# Altium schematic symbol library yusend_power.SCHLIB: 125 symbols
Pins are listed as number, name and electrical type; pins without a type are passive.

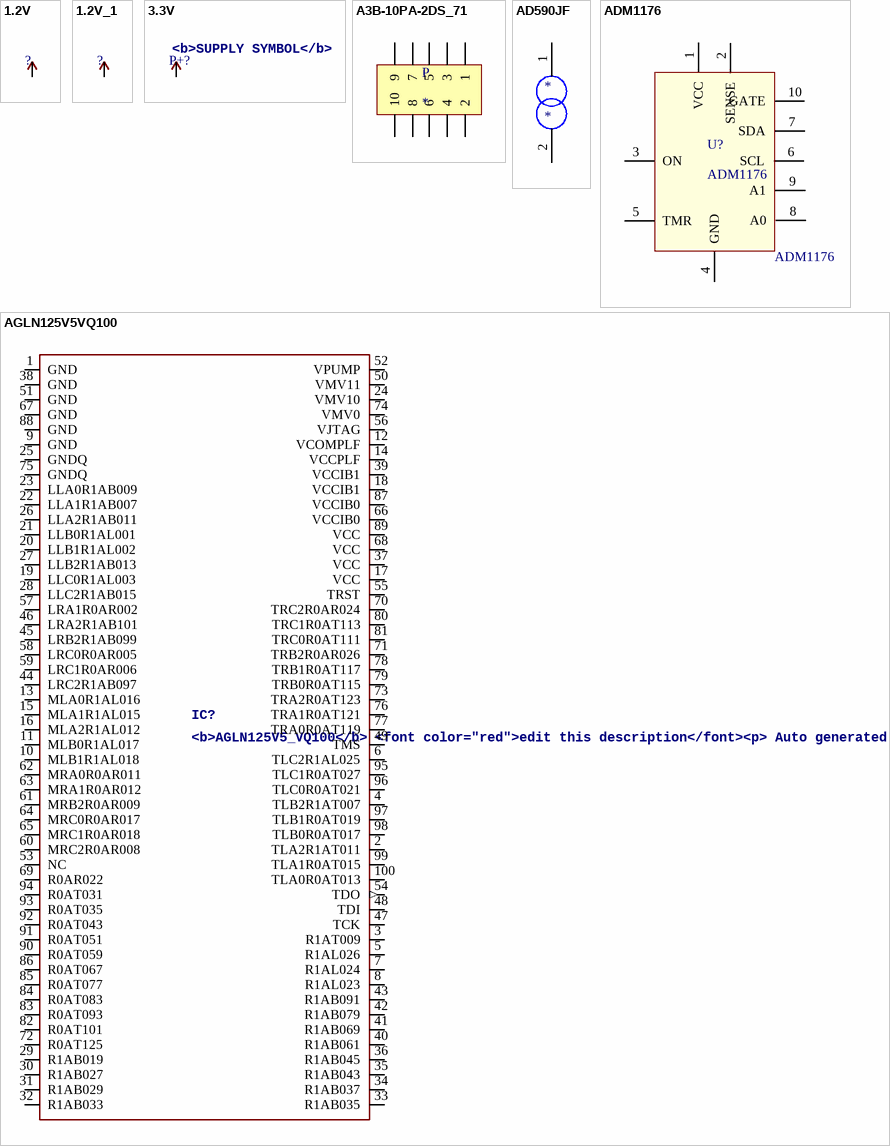
[diagram p0: symbols 1.2V to AGLN125V5VQ100]

## 1.2V
designator ?
pins: 1.2V (oe)

## 1.2V_1
designator ?
pins: 1.2V (oe)

## 3.3V
designator P+?, comment <b>SUPPLY SYMBOL</b>
pins: 3.3V (oe)

## A3B-10PA-2DS_71
designator P
footprint A3B-10PA-2DS_71
pins: 1 "A0", 2 "A0", 3 "A0", 4 "A0", 5 "A0", 6 "A0", 7 "A0", 8 "A0", 9 "A0", 10 "A0"

## AD590JF
designator *
Supplier 1: Digi-Key; Supplier Part Number 1: AD590JF-ND
footprint AD590JF (CFP, 2-Leads, Body 2.36x6.10mm (max), Pitch 1.27mm, IPC Medium Density)
pins: 1 "A0", 2 "A0"

## ADM1176
designator U?
DataSheet: http://www.analog.com/static/imported-files/data_sheets/ADM1176.pdf; Supplier 1: Digi-Key; Supplier Part Number 1: ADM1176-1ARMZ-R7CT-ND; MPN: ADM1176
footprint MSOP-10
pins: 1 VCC, 2 SENSE, 3 ON, 4 GND, 5 TMR, 6 SCL, 7 SDA, 8 A0, 9 A1, 10 GATE

## AGLN125V5VQ100
designator IC?, comment <b>AGLN125V5_VQ100</b> <font color="red">edit this description</font><p> / Auto generated by <i>make-symbol-device-package-bsdl.ulp Rev. 43</i><br> / Source: AGLN125V5_VQ100.bsd
footprint VQ100
pins: 1 GND (power), 2 TLA2R1AT011, 3 R1AT009, 4 TLB2R1AT007, 5 R1AL026, 6 TLC2R1AL025, 7 R1AL024, 8 R1AL023, 9 GND (power), 10 MLB1R1AL018, 11 MLB0R1AL017, 12 VCOMPLF, 13 MLA0R1AL016, 14 VCCPLF (power), 15 MLA1R1AL015, 16 MLA2R1AL012, 17 VCC (power), 18 VCCIB1 (power), 19 LLC0R1AL003, 20 LLB1R1AL002, 21 LLB0R1AL001, 22 LLA1R1AB007, 23 LLA0R1AB009, 24 VMV10, 25 GNDQ (power), 26 LLA2R1AB011, 27 LLB2R1AB013, 28 LLC2R1AB015, 29 R1AB019, 30 R1AB027, 31 R1AB029, 32 R1AB033, 33 R1AB035, 34 R1AB037, 35 R1AB043, 36 R1AB045, 37 VCC (power), 38 GND (power), 39 VCCIB1 (power), 40 R1AB061, 41 R1AB069, 42 R1AB079, 43 R1AB091, 44 LRC2R1AB097, 45 LRB2R1AB099, 46 LRA2R1AB101, 47 TCK, 48 TDI, 49 TMS, 50 VMV11, 51 GND (power), 52 VPUMP, 53 NC, 54 TDO (out), 55 TRST, 56 VJTAG, 57 LRA1R0AR002, 58 LRC0R0AR005, 59 LRC1R0AR006, 60 MRC2R0AR008, 61 MRB2R0AR009, 62 MRA0R0AR011, 63 MRA1R0AR012, 64 MRC0R0AR017, 65 MRC1R0AR018, 66 VCCIB0 (power), 67 GND (power), 68 VCC (power), 69 R0AR022, 70 TRC2R0AR024, 71 TRB2R0AR026, 72 R0AT125, 73 TRA2R0AT123, 74 VMV0, 75 GNDQ (power), 76 TRA1R0AT121, 77 TRA0R0AT119, 78 TRB1R0AT117, 79 TRB0R0AT115, 80 TRC1R0AT113, 81 TRC0R0AT111, 82 R0AT101, 83 R0AT093, 84 R0AT083, 85 R0AT077, 86 R0AT067, 87 VCCIB0 (power), 88 GND (power), 89 VCC (power), 90 R0AT059, 91 R0AT051, 92 R0AT043, 93 R0AT035, 94 R0AT031, 95 TLC1R0AT027, 96 TLC0R0AT021, 97 TLB1R0AT019, 98 TLB0R0AT017, 99 TLA1R0AT015, 100 TLA0R0AT013

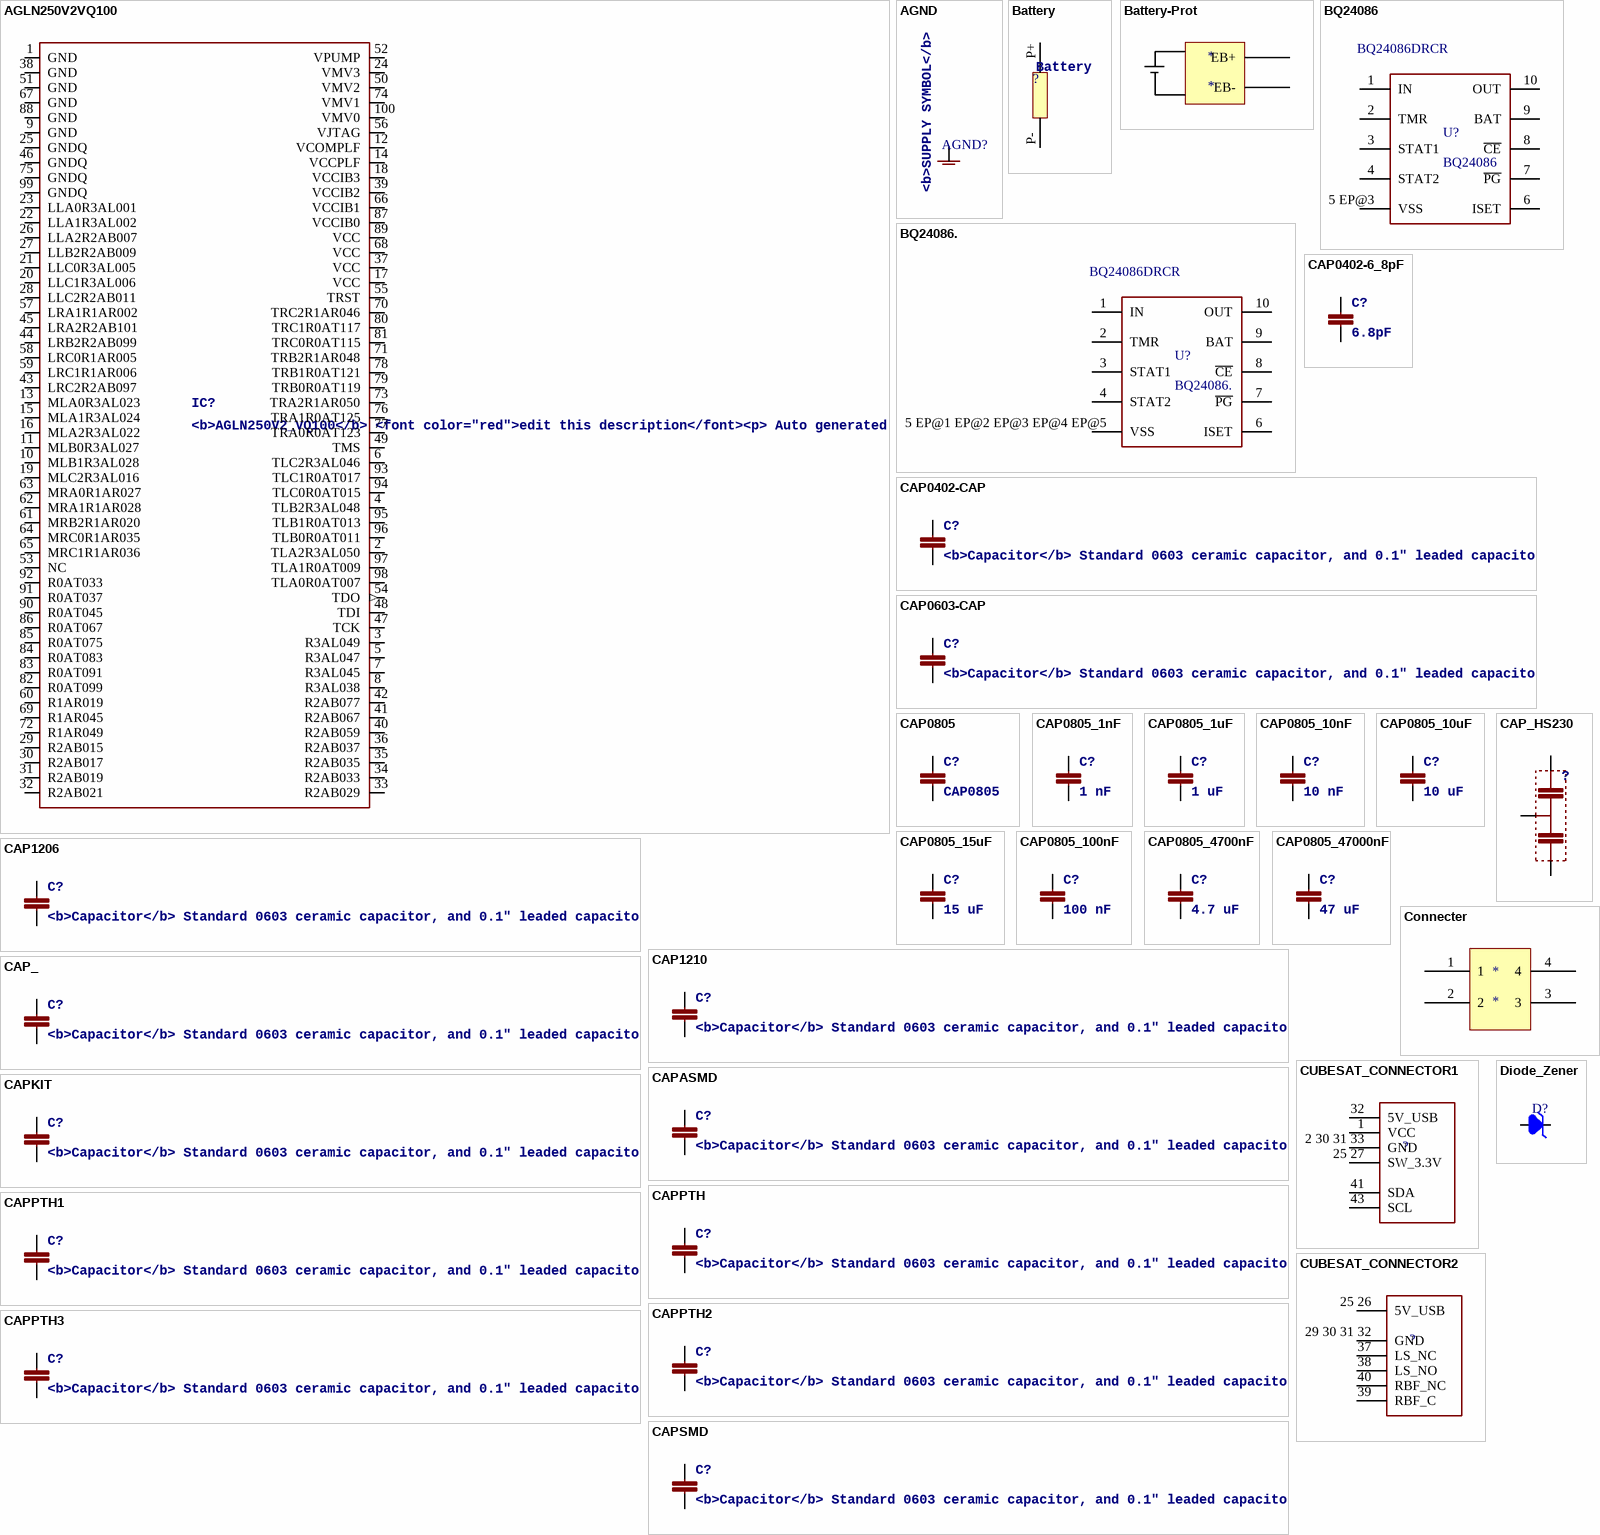
[diagram p1: symbols AGLN250V2VQ100 to Diode_Zener]

## AGLN250V2VQ100
designator IC?, comment <b>AGLN250V2_VQ100</b> <font color="red">edit this description</font><p> / Auto generated by <i>make-symbol-device-package-bsdl.ulp Rev. 43</i><br> / Source: AGLN250V2_VQ100.bsd
footprint VQ100
pins: 1 GND (power), 2 TLA2R3AL050, 3 R3AL049, 4 TLB2R3AL048, 5 R3AL047, 6 TLC2R3AL046, 7 R3AL045, 8 R3AL038, 9 GND (power), 10 MLB1R3AL028, 11 MLB0R3AL027, 12 VCOMPLF, 13 MLA0R3AL023, 14 VCCPLF (power), 15 MLA1R3AL024, 16 MLA2R3AL022, 17 VCC (power), 18 VCCIB3 (power), 19 MLC2R3AL016, 20 LLC1R3AL006, 21 LLC0R3AL005, 22 LLA1R3AL002, 23 LLA0R3AL001, 24 VMV3, 25 GNDQ (power), 26 LLA2R2AB007, 27 LLB2R2AB009, 28 LLC2R2AB011, 29 R2AB015, 30 R2AB017, 31 R2AB019, 32 R2AB021, 33 R2AB029, 34 R2AB033, 35 R2AB035, 36 R2AB037, 37 VCC (power), 38 GND (power), 39 VCCIB2 (power), 40 R2AB059, 41 R2AB067, 42 R2AB077, 43 LRC2R2AB097, 44 LRB2R2AB099, 45 LRA2R2AB101, 46 GNDQ (power), 47 TCK, 48 TDI, 49 TMS, 50 VMV2, 51 GND (power), 52 VPUMP, 53 NC, 54 TDO (out), 55 TRST, 56 VJTAG, 57 LRA1R1AR002, 58 LRC0R1AR005, 59 LRC1R1AR006, 60 R1AR019, 61 MRB2R1AR020, 62 MRA1R1AR028, 63 MRA0R1AR027, 64 MRC0R1AR035, 65 MRC1R1AR036, 66 VCCIB1 (power), 67 GND (power), 68 VCC (power), 69 R1AR045, 70 TRC2R1AR046, 71 TRB2R1AR048, 72 R1AR049, 73 TRA2R1AR050, 74 VMV1, 75 GNDQ (power), 76 TRA1R0AT125, 77 TRA0R0AT123, 78 TRB1R0AT121, 79 TRB0R0AT119, 80 TRC1R0AT117, 81 TRC0R0AT115, 82 R0AT099, 83 R0AT091, 84 R0AT083, 85 R0AT075, 86 R0AT067, 87 VCCIB0 (power), 88 GND (power), 89 VCC (power), 90 R0AT045, 91 R0AT037, 92 R0AT033, 93 TLC1R0AT017, 94 TLC0R0AT015, 95 TLB1R0AT013, 96 TLB0R0AT011, 97 TLA1R0AT009, 98 TLA0R0AT007, 99 GNDQ (power), 100 VMV0

## AGND
designator AGND?, comment <b>SUPPLY SYMBOL</b>
pins: AGND (oe)

## Battery
designator ?
footprint Battery-Li-ion
pins: P+ (power) "Pos term", P- (power) "Neg Term"

## Battery-Prot
designator *
footprint Batt-Prot
pins: EB+ "A0", EB- "A0"

## BQ24086
designator U?  Manufacturer Part Number: BQ24086DRCR
Manufacturer: Texas Instruments; Function: Charge Management; Battery Chemistry: Li-Ion, Li-Pol; Voltage - Supply: 3.5 V ~ 6.5 V; Supplier 1: Digi-Key; RoHS: RoHS Compliant; Category: Integrated Circuits (ICs); Stock 1: 3361; Pricing 1: 1=3.12, 10=2.826, 25=2.5312, 100=2.276, 250=2.02096, 500=1.7659, 750=1.59912, 1000=1.22632 (CAD); Packaging: Cut Tape (CT); Operating Temperature: -40°C ~ 155°C; Mounting Type: Surface Mount; Package / Case: 10-VFDFN Exposed Pad; Supplier Device Package: 10-SON (3x3); ComponentLink1URL: http://www.ti.com/lit/ds/symlink/bq24085.pdf; ComponentLink1Description: http://www.ti.com/lit/ds/symlink/bq24085.pdf; Supplier Part Number 1: 296-22993-1-ND
footprint PVSON10_AP
pins: 1 IN, 2 TMR, 3 STAT1, 4 STAT2, 5 EP@3 VSS, 6 ISET, 7 ~{PG}, 8 ~{CE}, 9 BAT, 10 OUT

## BQ24086.
designator U?  Manufacturer Part Number: BQ24086DRCR
Manufacturer: Texas Instruments; Function: Charge Management; Battery Chemistry: Li-Ion, Li-Pol; Voltage - Supply: 3.5 V ~ 6.5 V; Supplier 1: Digi-Key; RoHS: RoHS Compliant; Category: Integrated Circuits (ICs); Stock 1: 3361; Pricing 1: 1=3.12, 10=2.826, 25=2.5312, 100=2.276, 250=2.02096, 500=1.7659, 750=1.59912, 1000=1.22632 (CAD); Packaging: Cut Tape (CT); Operating Temperature: -40°C ~ 155°C; Mounting Type: Surface Mount; Package / Case: 10-VFDFN Exposed Pad; Supplier Device Package: 10-SON (3x3); ComponentLink1URL: http://www.ti.com/lit/ds/symlink/bq24085.pdf; ComponentLink1Description: http://www.ti.com/lit/ds/symlink/bq24085.pdf; Supplier Part Number 1: 296-22993-1-ND
footprint PVSON10
pins: 1 IN, 2 TMR, 3 STAT1, 4 STAT2, 5 EP@1 EP@2 EP@3 EP@4 EP@5 VSS, 6 ISET, 7 ~{PG}, 8 ~{CE}, 9 BAT, 10 OUT

## CAP0402-6_8pF
designator C?, comment 6.8pF
Value: 6.8pF; Supplier 1: Digi-Key; Supplier Part Number 1: 490-5950-1-ND
footprint 0402-CAP
pins: 1, 2

## CAP0402-CAP
designator C?, comment <b>Capacitor</b> / Standard 0603 ceramic capacitor, and 0.1" leaded capacitor.
footprint 0402-CAP
pins: 1, 2

## CAP0603-CAP
designator C?, comment <b>Capacitor</b> / Standard 0603 ceramic capacitor, and 0.1" leaded capacitor.
footprint 0603-CAP
pins: 1, 2

## CAP0805
designator C?
Manufacturer: Kemet; Manufacturer Part Number: C0805C105K8RACTU; Tolerance: ±10%; Voltage - Rated: 10V; Temperature Coefficient: X7R; RoHS: RoHS Compliant; Category: Capacitors; Packaging: Tape & Reel (TR); Mounting Type: Surface Mount, MLCC; Operating Temperature: -55°C ~ 125°C; Applications: General Purpose; Ratings: -; Package / Case: 0805 (2012 Metric); Size / Dimension: 0.079" L x 0.049" W (2.00mm x 1.25mm); Height - Seated (Max): -; Thickness (Max): 0.039" (1.00mm); Lead Spacing: -; Features: -; Lead Style: -; ComponentLink1URL: http://www.kemet.com/docfinder?Partnumber=C0805C105K8RACTU; ComponentLink1Description: http://www.kemet.com/docfinder?Partnumber=C0805C105K8RACTU
footprint 0805
pins: 1, 2

## CAP0805_1nF
designator C?, comment 1 nF
Tolerance: ±10%; Voltage - Rated: 10V; Temperature Coefficient: X7R; RoHS: RoHS Compliant; Category: Capacitors; Packaging: Tape & Reel (TR); Mounting Type: Surface Mount, MLCC; Operating Temperature: -55°C ~ 125°C; Applications: General Purpose; Ratings: -; Package / Case: 0805 (2012 Metric); Size / Dimension: 0.079" L x 0.049" W (2.00mm x 1.25mm); Height - Seated (Max): -; Thickness (Max): 0.039" (1.00mm); Lead Spacing: -; Features: -; Lead Style: -; ComponentLink1URL: http://www.kemet.com/docfinder?Partnumber=C0805C105K8RACTU; ComponentLink1Description: http://www.kemet.com/docfinder?Partnumber=C0805C105K8RACTU; Value: 1 nF; Supplier 1: Digi-Key; Supplier Part Number 1: 445-1330-1-ND
footprint 0805
pins: 1, 2

## CAP0805_1uF
designator C?, comment 1 uF
Manufacturer: Kemet; Manufacturer Part Number: C0805C105K8RACTU; Tolerance: ±10%; Voltage - Rated: 10V; Temperature Coefficient: X7R; RoHS: RoHS Compliant; Category: Capacitors; Packaging: Tape & Reel (TR); Mounting Type: Surface Mount, MLCC; Operating Temperature: -55°C ~ 125°C; Applications: General Purpose; Ratings: -; Package / Case: 0805 (2012 Metric); Size / Dimension: 0.079" L x 0.049" W (2.00mm x 1.25mm); Height - Seated (Max): -; Thickness (Max): 0.039" (1.00mm); Lead Spacing: -; Features: -; Lead Style: -; ComponentLink1URL: http://www.kemet.com/docfinder?Partnumber=C0805C105K8RACTU; ComponentLink1Description: http://www.kemet.com/docfinder?Partnumber=C0805C105K8RACTU; Value: 1 uF; Supplier 1: Digi-Key; Supplier Part Number 1: 445-1358-1-ND
footprint 0805
pins: 1, 2

## CAP0805_10nF
designator C?, comment 10 nF
Tolerance: ±10%; Voltage - Rated: 10V; Temperature Coefficient: X7R; RoHS: RoHS Compliant; Category: Capacitors; Packaging: Tape & Reel (TR); Mounting Type: Surface Mount, MLCC; Operating Temperature: -55°C ~ 125°C; Applications: General Purpose; Ratings: -; Package / Case: 0805 (2012 Metric); Size / Dimension: 0.079" L x 0.049" W (2.00mm x 1.25mm); Height - Seated (Max): -; Thickness (Max): 0.039" (1.00mm); Lead Spacing: -; Features: -; Lead Style: -; ComponentLink1URL: http://www.kemet.com/docfinder?Partnumber=C0805C105K8RACTU; ComponentLink1Description: http://www.kemet.com/docfinder?Partnumber=C0805C105K8RACTU; Value: 10 nF; Supplier 1: Digi-Key; Supplier Part Number 1: 1276-2437-1-ND
footprint 0805
pins: 1, 2

## CAP0805_10uF
designator C?, comment 10 uF
Tolerance: ±10%; Voltage - Rated: 10V; Temperature Coefficient: X5R; RoHS: RoHS Compliant; Category: Capacitors; Packaging: Tape & Reel (TR); Mounting Type: Surface Mount, MLCC; Operating Temperature: -55°C ~ 125°C; Applications: General Purpose; Ratings: -; Package / Case: 0805 (2012 Metric); Size / Dimension: 0.079" L x 0.049" W (2.00mm x 1.25mm); Thickness (Max): 0.039" (1.00mm); Value: 10 uF; Supplier 1: Digi-Key; Supplier Part Number 1: 445-7660-1-ND
footprint 0805
pins: 1, 2

## CAP0805_15uF
designator C?, comment 15 uF
Tolerance: ±10%; Voltage - Rated: 10V; Temperature Coefficient: X5R; RoHS: RoHS Compliant; Category: Capacitors; Packaging: Tape & Reel (TR); Mounting Type: Surface Mount, MLCC; Operating Temperature: -55°C ~ 125°C; Applications: General Purpose; Ratings: -; Package / Case: 0805 (2012 Metric); Size / Dimension: 0.079" L x 0.049" W (2.00mm x 1.25mm); Thickness (Max): 0.039" (1.00mm); Value: 15 uF; Supplier 1: Digi-Key; Supplier Part Number 1: 445-3950-2-ND
footprint 1210
pins: 1, 2

## CAP0805_100nF
designator C?, comment 100 nF
Manufacturer: Kemet; Manufacturer Part Number: C0805C105K8RACTU; Tolerance: ±10%; Voltage - Rated: 10V; Temperature Coefficient: X7R; RoHS: RoHS Compliant; Category: Capacitors; Packaging: Tape & Reel (TR); Mounting Type: Surface Mount, MLCC; Operating Temperature: -55°C ~ 125°C; Applications: General Purpose; Ratings: -; Package / Case: 0805 (2012 Metric); Size / Dimension: 0.079" L x 0.049" W (2.00mm x 1.25mm); Height - Seated (Max): -; Thickness (Max): 0.039" (1.00mm); Lead Spacing: -; Features: -; Lead Style: -; ComponentLink1URL: http://www.kemet.com/docfinder?Partnumber=C0805C105K8RACTU; ComponentLink1Description: http://www.kemet.com/docfinder?Partnumber=C0805C105K8RACTU; Value: 100 nF; Supplier 1: Digi-Key; Supplier Part Number 1: 445-7534-1-ND
footprint 0805
pins: 1, 2

## CAP0805_4700nF
designator C?, comment 4.7 uF
Tolerance: ±10%; Voltage - Rated: 10V; Temperature Coefficient: X5R; RoHS: RoHS Compliant; Category: Capacitors; Packaging: Tape & Reel (TR); Mounting Type: Surface Mount, MLCC; Operating Temperature: -55°C ~ 125°C; Applications: General Purpose; Ratings: -; Package / Case: 0805 (2012 Metric); Size / Dimension: 0.079" L x 0.049" W (2.00mm x 1.25mm); Thickness (Max): 0.039" (1.00mm); Value: 4.7 uF; Supplier 1: Digi-Key; Supplier Part Number 1: 709-1230-1-ND
footprint 0805
pins: 1, 2

## CAP0805_47000nF
designator C?, comment 47 uF
Tolerance: ±10%; Voltage - Rated: 10V; Temperature Coefficient: X5R; RoHS: RoHS Compliant; Category: Capacitors; Packaging: Tape & Reel (TR); Mounting Type: Surface Mount, MLCC; Operating Temperature: -55°C ~ 125°C; Applications: General Purpose; Ratings: -; Package / Case: 0805 (2012 Metric); Size / Dimension: 0.079" L x 0.049" W (2.00mm x 1.25mm); Thickness (Max): 0.039" (1.00mm); Value: 47 uF; Supplier 1: Digi-Key; Supplier Part Number 1: 399-5506-1-ND
footprint 0805
pins: 1, 2

## CAP1206
designator C?, comment <b>Capacitor</b> / Standard 0603 ceramic capacitor, and 0.1" leaded capacitor.
footprint 1206
pins: 1, 2

## CAP1210
designator C?, comment <b>Capacitor</b> / Standard 0603 ceramic capacitor, and 0.1" leaded capacitor.
footprint 1210
pins: 1, 2

## CAP_
designator C?, comment <b>Capacitor</b> / Standard 0603 ceramic capacitor, and 0.1" leaded capacitor.
footprint AXIAL-5MM
pins: P$1 1, P$2 2

## CAP_HS230
designator ?
footprint HS230
pins: BAL, P$1 1, P$2 2

## CAPASMD
designator C?, comment <b>Capacitor</b> / Standard 0603 ceramic capacitor, and 0.1" leaded capacitor.
footprint CTZ3
pins: + 1, - 2

## CAPKIT
designator C?, comment <b>Capacitor</b> / Standard 0603 ceramic capacitor, and 0.1" leaded capacitor.
footprint CAP-PTH-SMALL-KIT
pins: 1, 2

## CAPPTH
designator C?, comment <b>Capacitor</b> / Standard 0603 ceramic capacitor, and 0.1" leaded capacitor.
footprint CAP-PTH-SMALL
pins: 1, 2

## CAPPTH1
designator C?, comment <b>Capacitor</b> / Standard 0603 ceramic capacitor, and 0.1" leaded capacitor.
footprint CAP-PTH-5MM
pins: 1, 2

## CAPPTH2
designator C?, comment <b>Capacitor</b> / Standard 0603 ceramic capacitor, and 0.1" leaded capacitor.
footprint CAP-PTH-SMALL2
pins: 1, 2

## CAPPTH3
designator C?, comment <b>Capacitor</b> / Standard 0603 ceramic capacitor, and 0.1" leaded capacitor.
footprint CAP-PTH-LARGE
pins: 1, 2

## CAPSMD
designator C?, comment <b>Capacitor</b> / Standard 0603 ceramic capacitor, and 0.1" leaded capacitor.
footprint GRM43D
pins: A 1, C 2

## Connecter
designator *
Supplier 1: Digi-Key; Supplier Part Number 1: SAM1006-02-ND
footprint Connecter
pins: 1, 2, 3, 4

## CUBESAT_CONNECTOR1
designator ?
footprint ESQ-126-XX-X-D
pins: 1 VCC, 2 30 31 33 GND, 25 27 SW_3.3V, 32 5V_USB, 41 SDA, 43 SCL

## CUBESAT_CONNECTOR2
designator ?
footprint ESQ-126-XX-X-D
pins: 25 26 5V_USB, 29 30 31 32 GND, 37 LS_NC, 38 LS_NO, 39 RBF_C, 40 RBF_NC

## Diode_Zener
designator D?  (value not drawn)
Voltage - Zener (Nom) (Vz): 3.3V; Tolerance: ±5%; Power - Max: 3W; Impedance (Max) (Zzt): 10 Ohm; Current - Reverse Leakage @ Vr: 100µA @ 1V; Voltage - Forward (Vf) (Max) @ If: 1.5V @ 200mA; RoHS: RoHS Compliant; Category: Discrete Semiconductor Products; Packaging: Cut Tape (CT); Operating Temperature: -65°C ~ 150°C; Mounting Type: Surface Mount; Package / Case: DO-220AA; Supplier Device Package: SMB; ComponentLink1URL: http://www.onsemi.com/pub_link/Collateral/1SMB5913BT3-D.PDF; ComponentLink1Description: http://www.onsemi.com/pub_link/Collateral/1SMB5913BT3-D.PDF; Supplier 1: Digi-Key; Supplier Part Number 1: 497-15660-1-ND
footprint STmite
pins: 1, 2

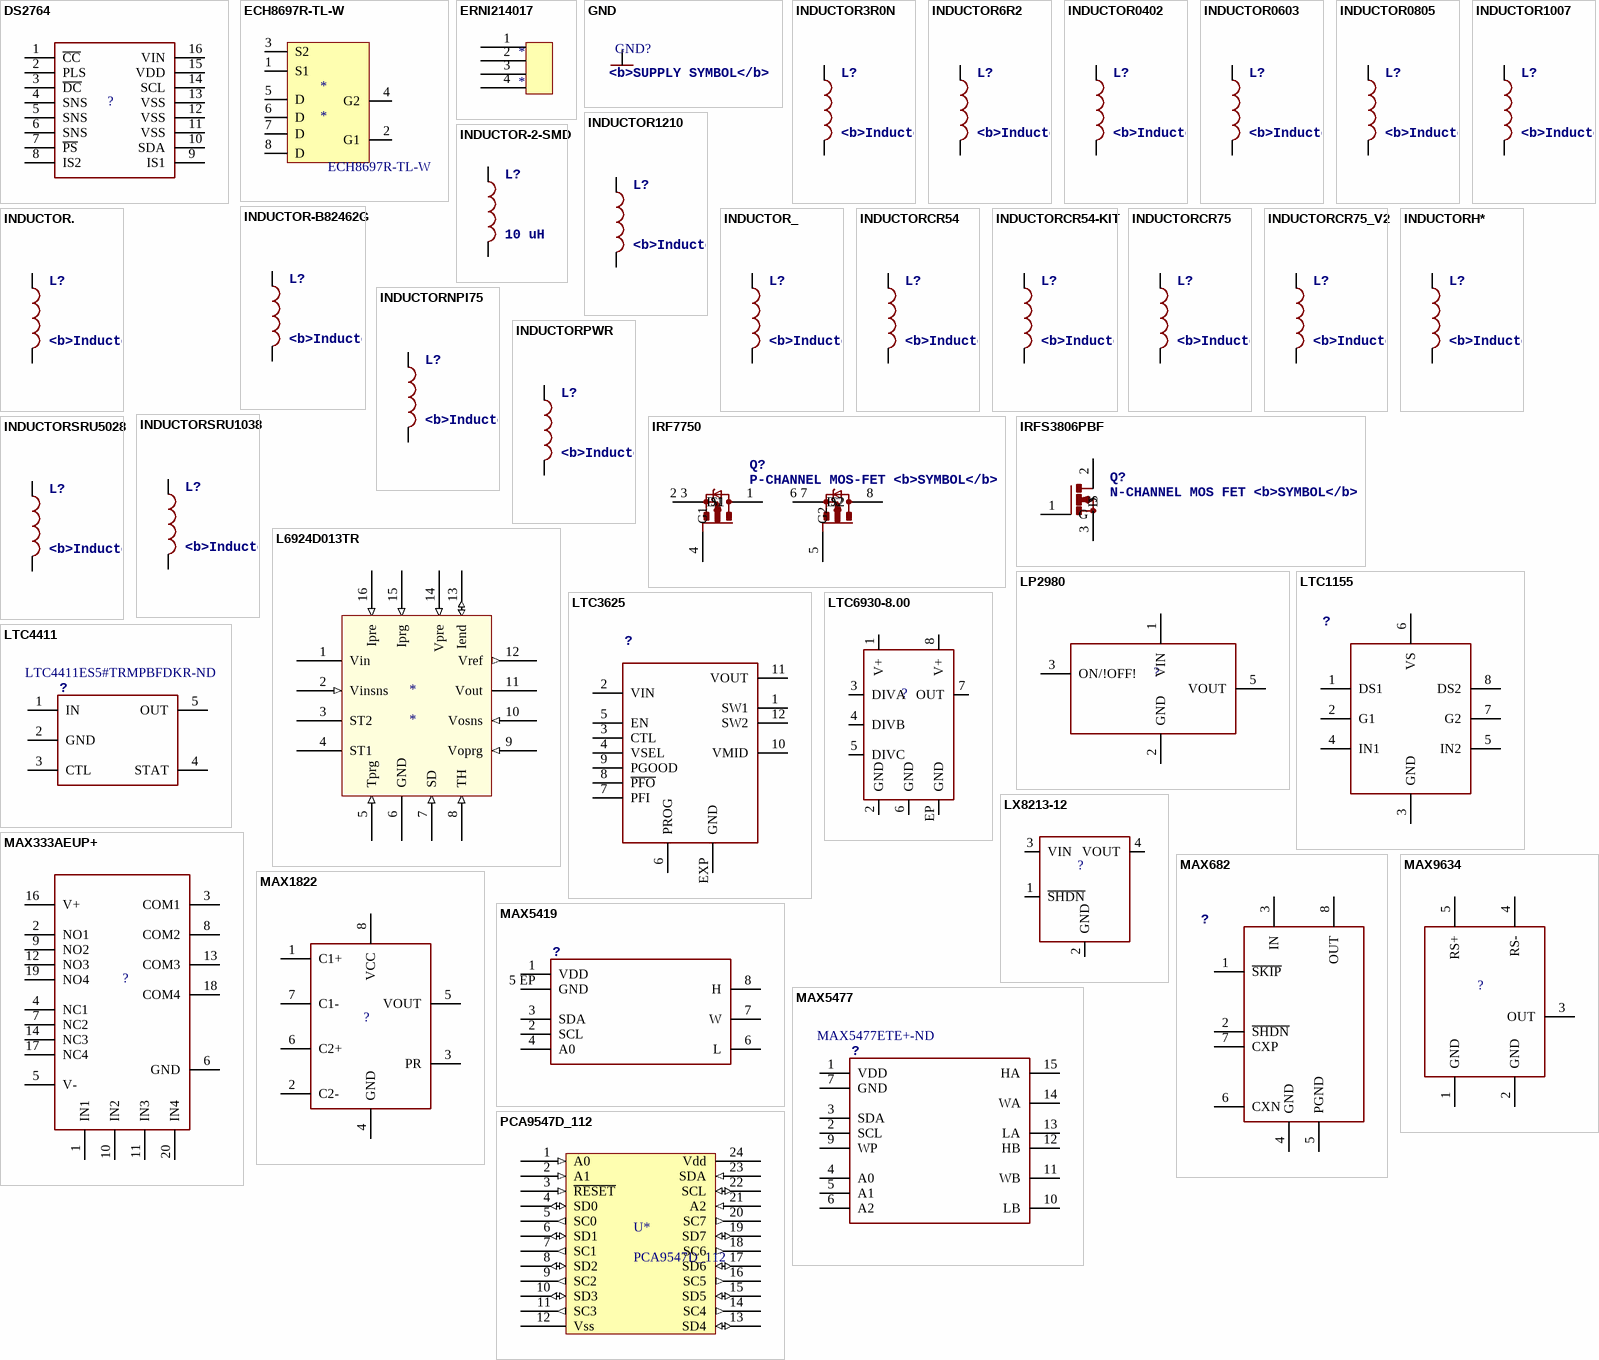
[diagram p2: symbols DS2764 to PCA9547D_112]

## DS2764
designator ?
footprint TSSOP16
pins: 1 ~{CC}, 2 PLS, 3 ~{DC}, 4 SNS, 5 SNS, 6 SNS, 7 ~{PS}, 8 IS2, 9 IS1, 10 SDA, 11 VSS, 12 VSS, 13 VSS, 14 SCL, 15 VDD, 16 VIN

## ECH8697R-TL-W
designator *  Manuf Part No: ECH8697R-TL-W
Supplier 1: Digi-Key; Supplier Part Number 1: ECH8697R-TL-WOSCT-ND
footprint SOT-28FL/ECH8
pins: 1 S1 "A0", 2 G1 "A0", 3 S2 "A0", 4 G2 "A0", 5 D "A0", 6 D "A0", 7 D "A0", 8 D "A0"

## ERNI214017
designator *
Supplier 1: Mouser; Supplier Part Number 1: 305-214017
footprint ERNI2014017
pins: 1 VCC "A0", 2 DATA "A0", 3 GND "A0", 4 RST "A0"

## GND
designator GND?, comment <b>SUPPLY SYMBOL</b>
pins: GND (oe)

## INDUCTOR3R0N
designator L?, comment <b>Inductors</b> / Basic Inductor/Choke - 0603 and 1206. Footprints are not proven and vary greatly between part numbers.
footprint CDRH6D28
pins: P$1 1, P$2 2

## INDUCTOR6R2
designator L?, comment <b>Inductors</b> / Basic Inductor/Choke - 0603 and 1206. Footprints are not proven and vary greatly between part numbers.
footprint CDRH5D28
pins: P$1 1, P$2 2

## INDUCTOR0402
designator L?, comment <b>Inductors</b> / Basic Inductor/Choke - 0603 and 1206. Footprints are not proven and vary greatly between part numbers.
footprint C0402
pins: 1, 2

## INDUCTOR0603
designator L?, comment <b>Inductors</b> / Basic Inductor/Choke - 0603 and 1206. Footprints are not proven and vary greatly between part numbers.
footprint 0603
pins: 1, 2

## INDUCTOR0805
designator L?, comment <b>Inductors</b> / Basic Inductor/Choke - 0603 and 1206. Footprints are not proven and vary greatly between part numbers.
footprint 0805
pins: 1, 2

## INDUCTOR1007
designator L?, comment <b>Inductors</b> / Basic Inductor/Choke - 0603 and 1206. Footprints are not proven and vary greatly between part numbers.
footprint 1007
pins: 1, 2

## INDUCTOR1210
designator L?, comment <b>Inductors</b> / Basic Inductor/Choke - 0603 and 1206. Footprints are not proven and vary greatly between part numbers.
footprint 1210
pins: 1, 2

## INDUCTOR-2-SMD
designator L?, comment 10 uH
Supplier 1: Digi-Key; Supplier Part Number 1: 495-5656-1-ND; Value: 10 uH
footprint 2-SMD
pins: 1, 2

## INDUCTOR-B82462G
designator L?, comment <b>Inductors</b> / Basic Inductor/Choke - 0603 and 1206. Footprints are not proven and vary greatly between part numbers.
footprint B82462G
pins: P$1 1, P$2 2

## INDUCTOR.
designator L?, comment <b>Inductors</b> / Basic Inductor/Choke - 0603 and 1206. Footprints are not proven and vary greatly between part numbers.
footprint CDRH2D09
pins: P$1 1, P$2 2

## INDUCTOR_
designator L?, comment <b>Inductors</b> / Basic Inductor/Choke - 0603 and 1206. Footprints are not proven and vary greatly between part numbers.
footprint COOPER_UP4B
pins: 1, 2

## INDUCTORCR54
designator L?, comment <b>Inductors</b> / Basic Inductor/Choke - 0603 and 1206. Footprints are not proven and vary greatly between part numbers.
footprint CR54
pins: P$1 1, P$2 2

## INDUCTORCR54-KIT
designator L?, comment <b>Inductors</b> / Basic Inductor/Choke - 0603 and 1206. Footprints are not proven and vary greatly between part numbers.
footprint CR54-KIT
pins: P$1 1, P$2 2

## INDUCTORCR75
designator L?, comment <b>Inductors</b> / Basic Inductor/Choke - 0603 and 1206. Footprints are not proven and vary greatly between part numbers.
footprint CR75
pins: P$1 1, P$2 2

## INDUCTORCR75_V2
designator L?, comment <b>Inductors</b> / Basic Inductor/Choke - 0603 and 1206. Footprints are not proven and vary greatly between part numbers.
footprint CR75_V2
pins: P$1 1, P$2 2

## INDUCTORH*
designator L?, comment <b>Inductors</b> / Basic Inductor/Choke - 0603 and 1206. Footprints are not proven and vary greatly between part numbers.
footprint INDUCTOR-1206
pins: P$1 1, P$2 2

## INDUCTORNPI75
designator L?, comment <b>Inductors</b> / Basic Inductor/Choke - 0603 and 1206. Footprints are not proven and vary greatly between part numbers.
footprint NPI75C
pins: 1, 2

## INDUCTORPWR
designator L?, comment <b>Inductors</b> / Basic Inductor/Choke - 0603 and 1206. Footprints are not proven and vary greatly between part numbers.
footprint CDRH125
pins: 1, 2

## INDUCTORSRU1038
designator L?, comment <b>Inductors</b> / Basic Inductor/Choke - 0603 and 1206. Footprints are not proven and vary greatly between part numbers.
footprint SRU1038
pins: 1, 2

## INDUCTORSRU5028
designator L?, comment <b>Inductors</b> / Basic Inductor/Choke - 0603 and 1206. Footprints are not proven and vary greatly between part numbers.
footprint SRU5028
pins: 1, 2

## IRF7750
designator Q?, comment P-CHANNEL MOS-FET <b>SYMBOL</b>
footprint TSSOP8
pins: 1 D1, 2 3 S1, 4 G1, 5 G2, 6 7 S2, 8 D2

## IRFS3806PBF
designator Q?, comment N-CHANNEL MOS FET <b>SYMBOL</b>
footprint D2PACK
pins: 1 G, 2 D, 3 S

## L6924D013TR
designator *
IC BATT CHRGR ION/POLY 16-VFQFPN; Manufacturer: STMicroelectronics; Manufacturer Part Number: L6924D013TR; Function: Charge Management; Battery Chemistry: Li-Ion, Li-Pol; Voltage - Supply: 2.5 V ~ 12 V; Supplier 1: Digi-Key; RoHS: RoHS Compliant; Category: Integrated Circuits (ICs); Stock 1: 3342; Pricing 1: 1=2.74, 10=2.477, 25=2.2188, 100=1.9951, 250=1.77148, 500=1.54788, 1000=1.2813 (CAD); Packaging: Cut Tape (CT); Operating Temperature: -40°C ~ 125°C; Mounting Type: Surface Mount; Package / Case: 16-VFQFN; Supplier Device Package: 16-VFQFP-N (3x3); ComponentLink1URL: http://www.st.com/web/en/resource/technical/document/datasheet/CD00079821.pdf; ComponentLink1Description: http://www.st.com/web/en/resource/technical/document/datasheet/CD00079821.pdf; Supplier Part Number 1: 497-5100-1-ND
footprint VQFN16_AP
pins: 1 Vin (power), 2 Vinsns (in), 3 ST2 (oc), 4 ST1 (oc), 5 Tprg (in), 6 GND (power), 7 SD (in), 8 TH (in), 9 Voprg (in), 10 Vosns (in), 11 Vout (power), 12 Vref (out), 13 Iend (io), 14 Vpre (in), 15 Iprg (in), 16 Ipre (in)

## LP2980
designator ?
footprint SOT23-5
pins: 1 VIN, 2 GND, 3 ON/!OFF!, 5 VOUT

## LTC1155
designator ?
footprint SOIC8
pins: 1 DS1, 2 G1, 3 GND, 4 IN1, 5 IN2, 6 VS, 7 G2, 8 DS2

## LTC3625
designator ?
footprint DFN12
pins: 1 SW1, 2 VIN, 3 CTL, 4 VSEL, 5 EN, 6 PROG, 7 PFI, 8 ~{PFO}, 9 PGOOD, 10 VMID, 11 VOUT, 12 SW2, EXP GND

## LTC4411
designator ?  Supplier Part Number 1: LTC4411ES5#TRMPBFDKR-ND
Manufacturer: Linear Technology; Manufacturer Part Number: LTC4411ES5#TRMPBF; FET Type: P-Channel; Ratio - Input:Output: 2:1; Internal Switch(s): Yes; Current - Output (Max): 2.6A; Current - Supply: 40µA; Voltage - Supply: 2.6 V ~ 5.5 V; Supplier 1: Digi-Key; RoHS: RoHS Compliant; Category: Integrated Circuits (ICs); Stock 1: 964; Pricing 1: 1=4.7, 25=4.1992, 100=3.7795 (CAD); Packaging: Digi-Reel®; Type: Source Selector Switch; Delay Time - ON: -; Delay Time - OFF: -; Applications: Handheld/Mobile Devices; Operating Temperature: -40°C ~ 85°C; Mounting Type: Surface Mount; Package / Case: SOT-23-5 Thin, TSOT-23-5; Supplier Device Package: TSOT-23-5; ComponentLink1URL: http://www.linear.com/docs/2583; ComponentLink1Description: http://www.linear.com/docs/2583
footprint SOT23-5
pins: 1 IN, 2 GND, 3 CTL, 4 STAT, 5 OUT

## LTC6930-8.00
designator ?
footprint DFN8-2X3
pins: 1 V+, 2 GND, 3 DIVA, 4 DIVB, 5 DIVC, 6 GND, 7 OUT, 8 V+, EP GND

## LX8213-12
designator ?
footprint SOT23-5
pins: 1 ~{SHDN}, 2 GND, 3 VIN, 4 VOUT

## MAX333AEUP+
designator ?
footprint TSSOP20
pins: 1 IN1, 2 NO1, 3 COM1, 4 NC1, 5 V-, 6 GND, 7 NC2, 8 COM2, 9 NO2, 10 IN2, 11 IN3, 12 NO3, 13 COM3, 14 NC3, 16 V+, 17 NC4, 18 COM4, 19 NO4, 20 IN4

## MAX682
designator ?
footprint SOIC8
pins: 1 ~{SKIP}, 2 ~{SHDN}, 3 IN, 4 GND, 5 PGND, 6 CXN, 7 CXP, 8 OUT

## MAX1822
designator ?
footprint SOIC8
pins: 1 C1+, 2 C2-, 3 PR, 4 GND, 5 VOUT, 6 C2+, 7 C1-, 8 VCC

## MAX5419
designator ?
footprint TDFN8-EP
pins: 1 VDD, 2 SCL, 3 SDA, 4 A0, 5 EP GND, 6 L, 7 W, 8 H

## MAX5477
designator ?  Supplier Part Number 1: MAX5477ETE+-ND
Manufacturer: Maxim Integrated; Manufacturer Part Number: MAX5477ETE+; Taps: 256; Resistance (Ohms): 10k; Number of Circuits: 2; Temperature Coefficient: 70 ppm/°C Typical; Memory Type: Non-Volatile; Interface: I²C (Device Address); Voltage - Supply: 2.7 V ~ 5.25 V; Supplier 1: Digi-Key; RoHS: RoHS Compliant; Category: Integrated Circuits (ICs); Stock 1: 779; Pricing 1: 1=2.86, 10=2.715, 50=2.7024 (CAD); Packaging: Tube; Operating Temperature: -40°C ~ 85°C; Mounting Type: Surface Mount; Package / Case: 16-WFQFN Exposed Pad; Supplier Device Package: 16-TQFN (3x3); ComponentLink1URL: http://datasheets.maximintegrated.com/en/ds/MAX5477-MAX5479.pdf; ComponentLink1Description: http://datasheets.maximintegrated.com/en/ds/MAX5477-MAX5479.pdf
footprint QFN-16
pins: 1 VDD, 2 SCL, 3 SDA, 4 A0, 5 A1, 6 A2, 7 GND, 9 WP, 10 LB, 11 WB, 12 HB, 13 LA, 14 WA, 15 HA

## MAX9634
designator ?
footprint SOT23-5
pins: 1 GND, 2 GND, 3 OUT, 4 RS-, 5 RS+

## PCA9547D_112
designator U*
Supplier 1: Digi-Key; Supplier Part Number 1: 568-11921-1-ND
footprint TSOP65P640X110-24N (TSOP, 24-Leads, Body 7.80x4.40mm, Pitch 0.65mm, IPC Medium Density)
pins: 1 A0 (in), 2 A1 (in) "A0", 3 ~{RESET} (in), 4 SD0 (io) "A0", 5 SC0 (out) "A0", 6 SD1 (io) "A0", 7 SC1 (out) "A0", 8 SD2 (io) "A0", 9 SC2 (out) "A0", 10 SD3 (io) "A0", 11 SC3 (out) "A0", 12 Vss (power) "A0", 13 SD4 (io) "A0", 14 SC4 (out) "A0", 15 SD5 (io) "A0", 16 SC5 (out) "A0", 17 SD6 (io) "A0", 18 SC6 (out) "A0", 19 SD7 (io) "A0", 20 SC7 (out) "A0", 21 A2 (in) "A0", 22 SCL (io) "A0", 23 SDA (in) "A0", 24 Vdd (power) "A0"

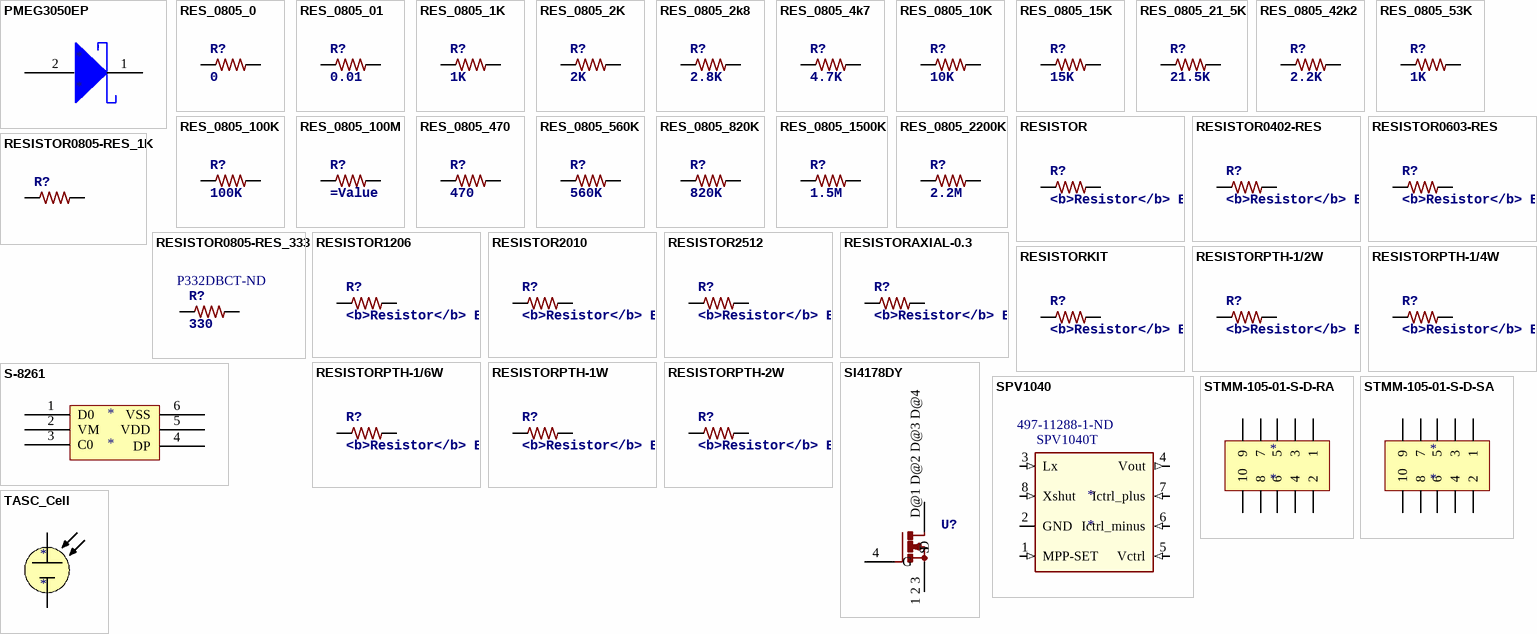
[diagram p3: symbols PMEG3050EP to TASC_Cell]

## PMEG3050EP
designator *
5A low Vf MEGA Schottky barrier rectifier; Supplier 1: Digi-Key; Supplier Part Number 1: 568-6753-1-ND
footprint SOD128 (Molded Diode, 2-Leads, Body 3.80x2.50mm, IPC Medium Density)
pins: 1 "A0", 2 "A0"

## RES_0805_0
designator R?, comment 0
Manufacturer: TE Connectivity; Manufacturer Part Number: 1625856-2; Resistance (Ohms): 100M; Tolerance: ±10%; Power (Watts): 0.125W, 1/8W; Temperature Coefficient: ±100ppm/°C; RoHS: RoHS Compliant; Category: Resistors; Packaging: Cut Tape (CT); Composition: Thick Film; Features: -; Operating Temperature: -55°C ~ 125°C; Package / Case: 0805 (2012 Metric); Supplier Device Package: 0805; Size / Dimension: 0.079" L x 0.047" W (2.00mm x 1.20mm); Height: 0.020" (0.50mm); Number of Terminations: 2; ComponentLink1URL: http://www.te.com/commerce/DocumentDelivery/DDEController?Action=srchrtrv&DocNm=1625856&DocType=Customer+Drawing&DocLang=English; ComponentLink1Description: http://www.te.com/commerce/DocumentDelivery/DDEController?Action=srchrtrv&DocNm=1625856&DocType=Customer+Drawing&DocLang=English; Value: 0; Supplier 1: Digi-Key; Supplier Part Number 1: RHM0.0ARCT-ND
footprint 0805
pins: 1, 2

## RES_0805_01
designator R?, comment 0.01
Manufacturer: TE Connectivity; Manufacturer Part Number: 1625856-2; Resistance (Ohms): 100M; Tolerance: ±10%; Power (Watts): 0.125W, 1/8W; Temperature Coefficient: ±100ppm/°C; RoHS: RoHS Compliant; Category: Resistors; Packaging: Cut Tape (CT); Composition: Thick Film; Features: -; Operating Temperature: -55°C ~ 125°C; Package / Case: 0805 (2012 Metric); Supplier Device Package: 0805; Size / Dimension: 0.079" L x 0.047" W (2.00mm x 1.20mm); Height: 0.020" (0.50mm); Number of Terminations: 2; ComponentLink1URL: http://www.te.com/commerce/DocumentDelivery/DDEController?Action=srchrtrv&DocNm=1625856&DocType=Customer+Drawing&DocLang=English; ComponentLink1Description: http://www.te.com/commerce/DocumentDelivery/DDEController?Action=srchrtrv&DocNm=1625856&DocType=Customer+Drawing&DocLang=English; Value: 0.01; Supplier 1: Digi-Key; Supplier Part Number 1: RL12T.010JCT-ND
footprint 0805
pins: 1, 2

## RES_0805_1K
designator R?, comment 1K
Manufacturer: TE Connectivity; Manufacturer Part Number: 1625856-2; Resistance (Ohms): 100M; Tolerance: ±10%; Power (Watts): 0.125W, 1/8W; Temperature Coefficient: ±100ppm/°C; RoHS: RoHS Compliant; Category: Resistors; Packaging: Cut Tape (CT); Composition: Thick Film; Features: -; Operating Temperature: -55°C ~ 125°C; Package / Case: 0805 (2012 Metric); Supplier Device Package: 0805; Size / Dimension: 0.079" L x 0.047" W (2.00mm x 1.20mm); Height: 0.020" (0.50mm); Number of Terminations: 2; ComponentLink1URL: http://www.te.com/commerce/DocumentDelivery/DDEController?Action=srchrtrv&DocNm=1625856&DocType=Customer+Drawing&DocLang=English; ComponentLink1Description: http://www.te.com/commerce/DocumentDelivery/DDEController?Action=srchrtrv&DocNm=1625856&DocType=Customer+Drawing&DocLang=English; Value: 1K; Supplier 1: Digi-Key; Supplier Part Number 1: P1.00KCCT-ND
footprint 0805
pins: 1, 2

## RES_0805_2K
designator R?, comment 2K
Manufacturer: TE Connectivity; Manufacturer Part Number: 1625856-2; Resistance (Ohms): 100M; Tolerance: ±10%; Power (Watts): 0.125W, 1/8W; Temperature Coefficient: ±100ppm/°C; RoHS: RoHS Compliant; Category: Resistors; Packaging: Cut Tape (CT); Composition: Thick Film; Features: -; Operating Temperature: -55°C ~ 125°C; Package / Case: 0805 (2012 Metric); Supplier Device Package: 0805; Size / Dimension: 0.079" L x 0.047" W (2.00mm x 1.20mm); Height: 0.020" (0.50mm); Number of Terminations: 2; ComponentLink1URL: http://www.te.com/commerce/DocumentDelivery/DDEController?Action=srchrtrv&DocNm=1625856&DocType=Customer+Drawing&DocLang=English; ComponentLink1Description: http://www.te.com/commerce/DocumentDelivery/DDEController?Action=srchrtrv&DocNm=1625856&DocType=Customer+Drawing&DocLang=English; Value: 2K; Supplier 1: Digi-Key; Supplier Part Number 1: P2.00KCCT-ND
footprint 0805
pins: 1, 2

## RES_0805_2k8
designator R?, comment 2.8K
Manufacturer: TE Connectivity; Manufacturer Part Number: 1625856-2; Resistance (Ohms): 100M; Tolerance: ±10%; Power (Watts): 0.125W, 1/8W; Temperature Coefficient: ±100ppm/°C; RoHS: RoHS Compliant; Category: Resistors; Packaging: Cut Tape (CT); Composition: Thick Film; Features: -; Operating Temperature: -55°C ~ 125°C; Package / Case: 0805 (2012 Metric); Supplier Device Package: 0805; Size / Dimension: 0.079" L x 0.047" W (2.00mm x 1.20mm); Height: 0.020" (0.50mm); Number of Terminations: 2; ComponentLink1URL: http://www.te.com/commerce/DocumentDelivery/DDEController?Action=srchrtrv&DocNm=1625856&DocType=Customer+Drawing&DocLang=English; ComponentLink1Description: http://www.te.com/commerce/DocumentDelivery/DDEController?Action=srchrtrv&DocNm=1625856&DocType=Customer+Drawing&DocLang=English; Value: 2.8K; Supplier 1: Digi-Key; Supplier Part Number 1: P2.80KCCT-ND
footprint 0805
pins: 1, 2

## RES_0805_4k7
designator R?, comment 4.7K
Manufacturer: TE Connectivity; Manufacturer Part Number: 1625856-2; Resistance (Ohms): 100M; Tolerance: ±10%; Power (Watts): 0.125W, 1/8W; Temperature Coefficient: ±100ppm/°C; RoHS: RoHS Compliant; Category: Resistors; Packaging: Cut Tape (CT); Composition: Thick Film; Features: -; Operating Temperature: -55°C ~ 125°C; Package / Case: 0805 (2012 Metric); Supplier Device Package: 0805; Size / Dimension: 0.079" L x 0.047" W (2.00mm x 1.20mm); Height: 0.020" (0.50mm); Number of Terminations: 2; ComponentLink1URL: http://www.te.com/commerce/DocumentDelivery/DDEController?Action=srchrtrv&DocNm=1625856&DocType=Customer+Drawing&DocLang=English; ComponentLink1Description: http://www.te.com/commerce/DocumentDelivery/DDEController?Action=srchrtrv&DocNm=1625856&DocType=Customer+Drawing&DocLang=English; Value: 4.7K; Supplier 1: Digi-Key; Supplier Part Number 1: 311-4.70KCRCT-ND
footprint 0805
pins: 1, 2

## RES_0805_10K
designator R?, comment 10K
Manufacturer: TE Connectivity; Manufacturer Part Number: 1625856-2; Tolerance: ±10%; Power (Watts): 0.125W, 1/8W; Temperature Coefficient: ±100ppm/°C; RoHS: RoHS Compliant; Category: Resistors; Packaging: Cut Tape (CT); Resistance (Ohms): 10K; Composition: Thick Film; Features: -; Operating Temperature: -55°C ~ 125°C; Package / Case: 0805 (2012 Metric); Supplier Device Package: 0805; Size / Dimension: 0.079" L x 0.047" W (2.00mm x 1.20mm); Height: 0.020" (0.50mm); Number of Terminations: 2; ComponentLink1URL: http://www.te.com/commerce/DocumentDelivery/DDEController?Action=srchrtrv&DocNm=1625856&DocType=Customer+Drawing&DocLang=English; ComponentLink1Description: http://www.te.com/commerce/DocumentDelivery/DDEController?Action=srchrtrv&DocNm=1625856&DocType=Customer+Drawing&DocLang=English; Value: 10K; Supplier 1: Digi-Key; Supplier Part Number 1: 311-10.0KCRCT-ND
footprint 0805
pins: 1, 2

## RES_0805_15K
designator R?, comment 15K
Manufacturer: TE Connectivity; Manufacturer Part Number: 1625856-2; Tolerance: ±10%; Power (Watts): 0.125W, 1/8W; Temperature Coefficient: ±100ppm/°C; RoHS: RoHS Compliant; Category: Resistors; Packaging: Cut Tape (CT); Resistance (Ohms): 15K; Composition: Thick Film; Features: -; Operating Temperature: -55°C ~ 125°C; Package / Case: 0805 (2012 Metric); Supplier Device Package: 0805; Size / Dimension: 0.079" L x 0.047" W (2.00mm x 1.20mm); Height: 0.020" (0.50mm); Number of Terminations: 2; ComponentLink1URL: http://www.te.com/commerce/DocumentDelivery/DDEController?Action=srchrtrv&DocNm=1625856&DocType=Customer+Drawing&DocLang=English; ComponentLink1Description: http://www.te.com/commerce/DocumentDelivery/DDEController?Action=srchrtrv&DocNm=1625856&DocType=Customer+Drawing&DocLang=English; Value: 15K; Supplier 1: Digi-Key; Supplier Part Number 1: 311-15.0KCRCT-ND
footprint 0805
pins: 1, 2

## RES_0805_21_5K
designator R?, comment 21.5K
Manufacturer: TE Connectivity; Manufacturer Part Number: 1625856-2; Resistance (Ohms): 15K; Tolerance: ±10%; Power (Watts): 0.125W, 1/8W; Temperature Coefficient: ±100ppm/°C; RoHS: RoHS Compliant; Category: Resistors; Packaging: Cut Tape (CT); Composition: Thick Film; Features: -; Operating Temperature: -55°C ~ 125°C; Package / Case: 0805 (2012 Metric); Supplier Device Package: 0805; Size / Dimension: 0.079" L x 0.047" W (2.00mm x 1.20mm); Height: 0.020" (0.50mm); Number of Terminations: 2; ComponentLink1URL: http://www.te.com/commerce/DocumentDelivery/DDEController?Action=srchrtrv&DocNm=1625856&DocType=Customer+Drawing&DocLang=English; ComponentLink1Description: http://www.te.com/commerce/DocumentDelivery/DDEController?Action=srchrtrv&DocNm=1625856&DocType=Customer+Drawing&DocLang=English; Value: 21.5K; Supplier 1: Digi-Key; Supplier Part Number 1: 541-21.5KCCT-ND
footprint 0805
pins: 1, 2

## RES_0805_42k2
designator R?, comment 2.2K
Manufacturer: TE Connectivity; Manufacturer Part Number: 1625856-2; Resistance (Ohms): 100M; Tolerance: ±10%; Power (Watts): 0.125W, 1/8W; Temperature Coefficient: ±100ppm/°C; RoHS: RoHS Compliant; Category: Resistors; Packaging: Cut Tape (CT); Composition: Thick Film; Features: -; Operating Temperature: -55°C ~ 125°C; Package / Case: 0805 (2012 Metric); Supplier Device Package: 0805; Size / Dimension: 0.079" L x 0.047" W (2.00mm x 1.20mm); Height: 0.020" (0.50mm); Number of Terminations: 2; ComponentLink1URL: http://www.te.com/commerce/DocumentDelivery/DDEController?Action=srchrtrv&DocNm=1625856&DocType=Customer+Drawing&DocLang=English; ComponentLink1Description: http://www.te.com/commerce/DocumentDelivery/DDEController?Action=srchrtrv&DocNm=1625856&DocType=Customer+Drawing&DocLang=English; Value: 2.2K; Supplier 1: Digi-Key; Supplier Part Number 1: 311-42.2KCRCT-ND
footprint 0805
pins: 1, 2

## RES_0805_53K
designator R?, comment 1K
Manufacturer: TE Connectivity; Manufacturer Part Number: 1625856-2; Resistance (Ohms): 15K; Tolerance: ±10%; Power (Watts): 0.125W, 1/8W; Temperature Coefficient: ±100ppm/°C; RoHS: RoHS Compliant; Category: Resistors; Packaging: Cut Tape (CT); Composition: Thick Film; Features: -; Operating Temperature: -55°C ~ 125°C; Package / Case: 0805 (2012 Metric); Supplier Device Package: 0805; Size / Dimension: 0.079" L x 0.047" W (2.00mm x 1.20mm); Height: 0.020" (0.50mm); Number of Terminations: 2; ComponentLink1URL: http://www.te.com/commerce/DocumentDelivery/DDEController?Action=srchrtrv&DocNm=1625856&DocType=Customer+Drawing&DocLang=English; ComponentLink1Description: http://www.te.com/commerce/DocumentDelivery/DDEController?Action=srchrtrv&DocNm=1625856&DocType=Customer+Drawing&DocLang=English; Value: 1K; Supplier 1: Digi-Key; Supplier Part Number 1: 311-15.0KCRCT-ND
footprint 0805
pins: 1, 2

## RES_0805_100K
designator R?, comment 100K
Manufacturer: TE Connectivity; Manufacturer Part Number: 1625856-2; Resistance (Ohms): 10K; Tolerance: ±10%; Power (Watts): 0.125W, 1/8W; Temperature Coefficient: ±100ppm/°C; RoHS: RoHS Compliant; Category: Resistors; Packaging: Cut Tape (CT); Composition: Thick Film; Features: -; Operating Temperature: -55°C ~ 125°C; Package / Case: 0805 (2012 Metric); Supplier Device Package: 0805; Size / Dimension: 0.079" L x 0.047" W (2.00mm x 1.20mm); Height: 0.020" (0.50mm); Number of Terminations: 2; ComponentLink1URL: http://www.te.com/commerce/DocumentDelivery/DDEController?Action=srchrtrv&DocNm=1625856&DocType=Customer+Drawing&DocLang=English; ComponentLink1Description: http://www.te.com/commerce/DocumentDelivery/DDEController?Action=srchrtrv&DocNm=1625856&DocType=Customer+Drawing&DocLang=English; Value: 100K; Supplier 1: Digi-Key; Supplier Part Number 1: 311-100KCRCT-ND
footprint 0805
pins: 1, 2

## RES_0805_100M
designator R?
Manufacturer: TE Connectivity; Manufacturer Part Number: 1625856-2; Resistance (Ohms): 100M; Tolerance: ±10%; Power (Watts): 0.125W, 1/8W; Temperature Coefficient: ±100ppm/°C; Supplier 1: Digi-Key; RoHS: RoHS Compliant; Category: Resistors; Stock 1: 4030; Pricing 1: 1=1.32, 10=1.163, 25=1.0696, 50=0.9756, 100=0.8443, 250=0.71292, 500=0.60032 (CAD); Packaging: Cut Tape (CT); Composition: Thick Film; Features: -; Operating Temperature: -55°C ~ 125°C; Package / Case: 0805 (2012 Metric); Supplier Device Package: 0805; Size / Dimension: 0.079" L x 0.047" W (2.00mm x 1.20mm); Height: 0.020" (0.50mm); Number of Terminations: 2; ComponentLink1URL: http://www.te.com/commerce/DocumentDelivery/DDEController?Action=srchrtrv&DocNm=1625856&DocType=Customer+Drawing&DocLang=English; ComponentLink1Description: http://www.te.com/commerce/DocumentDelivery/DDEController?Action=srchrtrv&DocNm=1625856&DocType=Customer+Drawing&DocLang=English; Supplier Part Number 1: A106111CT-ND
footprint 0805
pins: 1, 2

## RES_0805_470
designator R?, comment 470
Manufacturer: TE Connectivity; Manufacturer Part Number: 1625856-2; Resistance (Ohms): 100M; Tolerance: ±10%; Power (Watts): 0.125W, 1/8W; Temperature Coefficient: ±100ppm/°C; RoHS: RoHS Compliant; Category: Resistors; Packaging: Cut Tape (CT); Composition: Thick Film; Features: -; Operating Temperature: -55°C ~ 125°C; Package / Case: 0805 (2012 Metric); Supplier Device Package: 0805; Size / Dimension: 0.079" L x 0.047" W (2.00mm x 1.20mm); Height: 0.020" (0.50mm); Number of Terminations: 2; ComponentLink1URL: http://www.te.com/commerce/DocumentDelivery/DDEController?Action=srchrtrv&DocNm=1625856&DocType=Customer+Drawing&DocLang=English; ComponentLink1Description: http://www.te.com/commerce/DocumentDelivery/DDEController?Action=srchrtrv&DocNm=1625856&DocType=Customer+Drawing&DocLang=English; Value: 470; Supplier 1: Digi-Key; Supplier Part Number 1: 311-470CRCT-ND
footprint 0805
pins: 1, 2

## RES_0805_560K
designator R?, comment 560K
Manufacturer: TE Connectivity; Manufacturer Part Number: 1625856-2; Tolerance: ±10%; Power (Watts): 0.125W, 1/8W; Temperature Coefficient: ±100ppm/°C; RoHS: RoHS Compliant; Category: Resistors; Packaging: Cut Tape (CT); Resistance (Ohms): 560K; Composition: Thick Film; Features: -; Operating Temperature: -55°C ~ 125°C; Package / Case: 0805 (2012 Metric); Supplier Device Package: 0805; Size / Dimension: 0.079" L x 0.047" W (2.00mm x 1.20mm); Height: 0.020" (0.50mm); Number of Terminations: 2; ComponentLink1URL: http://www.te.com/commerce/DocumentDelivery/DDEController?Action=srchrtrv&DocNm=1625856&DocType=Customer+Drawing&DocLang=English; ComponentLink1Description: http://www.te.com/commerce/DocumentDelivery/DDEController?Action=srchrtrv&DocNm=1625856&DocType=Customer+Drawing&DocLang=English; Value: 560K; Supplier 1: Digi-Key; Supplier Part Number 1: A103220CT-ND
footprint 0805
pins: 1, 2

## RES_0805_820K
designator R?, comment 820K
Manufacturer: TE Connectivity; Manufacturer Part Number: 1625856-2; Resistance (Ohms): 100M; Tolerance: ±10%; Power (Watts): 0.125W, 1/8W; Temperature Coefficient: ±100ppm/°C; RoHS: RoHS Compliant; Category: Resistors; Packaging: Cut Tape (CT); Composition: Thick Film; Features: -; Operating Temperature: -55°C ~ 125°C; Package / Case: 0805 (2012 Metric); Supplier Device Package: 0805; Size / Dimension: 0.079" L x 0.047" W (2.00mm x 1.20mm); Height: 0.020" (0.50mm); Number of Terminations: 2; ComponentLink1URL: http://www.te.com/commerce/DocumentDelivery/DDEController?Action=srchrtrv&DocNm=1625856&DocType=Customer+Drawing&DocLang=English; ComponentLink1Description: http://www.te.com/commerce/DocumentDelivery/DDEController?Action=srchrtrv&DocNm=1625856&DocType=Customer+Drawing&DocLang=English; Value: 820K; Supplier 1: Digi-Key; Supplier Part Number 1: P820KDACT-ND
footprint 0805
pins: 1, 2

## RES_0805_1500K
designator R?, comment 1.5M
Manufacturer: TE Connectivity; Manufacturer Part Number: 1625856-2; Tolerance: ±10%; Power (Watts): 0.125W, 1/8W; Temperature Coefficient: ±100ppm/°C; RoHS: RoHS Compliant; Category: Resistors; Packaging: Cut Tape (CT); Resistance (Ohms): 1.5M; Composition: Thick Film; Features: -; Operating Temperature: -55°C ~ 125°C; Package / Case: 0805 (2012 Metric); Supplier Device Package: 0805; Size / Dimension: 0.079" L x 0.047" W (2.00mm x 1.20mm); Height: 0.020" (0.50mm); Number of Terminations: 2; ComponentLink1URL: http://www.te.com/commerce/DocumentDelivery/DDEController?Action=srchrtrv&DocNm=1625856&DocType=Customer+Drawing&DocLang=English; ComponentLink1Description: http://www.te.com/commerce/DocumentDelivery/DDEController?Action=srchrtrv&DocNm=1625856&DocType=Customer+Drawing&DocLang=English; Value: 1.5M; Supplier 1: Digi-Key; Supplier Part Number 1: A103799CT-ND
footprint 0805
pins: 1, 2

## RES_0805_2200K
designator R?, comment 2.2M
Manufacturer: TE Connectivity; Manufacturer Part Number: 1625856-2; Resistance (Ohms): 100M; Tolerance: ±10%; Power (Watts): 0.125W, 1/8W; Temperature Coefficient: ±100ppm/°C; RoHS: RoHS Compliant; Category: Resistors; Packaging: Cut Tape (CT); Composition: Thick Film; Features: -; Operating Temperature: -55°C ~ 125°C; Package / Case: 0805 (2012 Metric); Supplier Device Package: 0805; Size / Dimension: 0.079" L x 0.047" W (2.00mm x 1.20mm); Height: 0.020" (0.50mm); Number of Terminations: 2; ComponentLink1URL: http://www.te.com/commerce/DocumentDelivery/DDEController?Action=srchrtrv&DocNm=1625856&DocType=Customer+Drawing&DocLang=English; ComponentLink1Description: http://www.te.com/commerce/DocumentDelivery/DDEController?Action=srchrtrv&DocNm=1625856&DocType=Customer+Drawing&DocLang=English; Supplier 1: Digi-Key; Supplier Part Number 1: RHM2.20MAHCT-ND; Value: 2.2M
footprint 0805
pins: 1, 2

## RESISTOR
designator R?, comment <b>Resistor</b> / Basic schematic elements and footprints for 0603, 1206, and PTH resistors.
footprint 2512-KELVIN
pins: A1 A2 A3 1, B1 B2 B3 2

## RESISTOR0402-RES
designator R?, comment <b>Resistor</b> / Basic schematic elements and footprints for 0603, 1206, and PTH resistors.
footprint 0402-RES
pins: 1, 2

## RESISTOR0603-RES
designator R?, comment <b>Resistor</b> / Basic schematic elements and footprints for 0603, 1206, and PTH resistors.
footprint 0603-RES
pins: 1, 2

## RESISTOR0805-RES_1K
designator R?
Manufacturer: TE Connectivity; Manufacturer Part Number: 1625856-2; Resistance (Ohms): 1K; Tolerance: ±10%; Power (Watts): 0.125W, 1/8W; Temperature Coefficient: ±100ppm/°C; RoHS: RoHS Compliant; Category: Resistors; Packaging: Cut Tape (CT); Composition: Thick Film; Features: -; Operating Temperature: -55°C ~ 125°C; Package / Case: 0805 (2012 Metric); Supplier Device Package: 0805; Size / Dimension: 0.079" L x 0.047" W (2.00mm x 1.20mm); Height: 0.020" (0.50mm); Number of Terminations: 2; ComponentLink1URL: http://www.te.com/commerce/DocumentDelivery/DDEController?Action=srchrtrv&DocNm=1625856&DocType=Customer+Drawing&DocLang=English; ComponentLink1Description: http://www.te.com/commerce/DocumentDelivery/DDEController?Action=srchrtrv&DocNm=1625856&DocType=Customer+Drawing&DocLang=English; Supplier 1: Digi-Key; Supplier Part Number 1: P1.00KCCT-ND; Supplier 2: Newark; Supplier Part Number 2: 38K0327
footprint 0805
pins: 1, 2

## RESISTOR0805-RES_333
designator R?, comment 330  Supplier Part Number 1: P332DBCT-ND
Manufacturer: TE Connectivity; Manufacturer Part Number: 1625856-2; Tolerance: ±10%; Power (Watts): 0.125W, 1/8W; Temperature Coefficient: ±100ppm/°C; RoHS: RoHS Compliant; Category: Resistors; Packaging: Cut Tape (CT); Value: 330; Composition: Thick Film; Features: -; Operating Temperature: -55°C ~ 125°C; Package / Case: 0805 (2012 Metric); Supplier Device Package: 0805; Size / Dimension: 0.079" L x 0.047" W (2.00mm x 1.20mm); Height: 0.020" (0.50mm); Number of Terminations: 2; ComponentLink1URL: http://www.te.com/commerce/DocumentDelivery/DDEController?Action=srchrtrv&DocNm=1625856&DocType=Customer+Drawing&DocLang=English; ComponentLink1Description: http://www.te.com/commerce/DocumentDelivery/DDEController?Action=srchrtrv&DocNm=1625856&DocType=Customer+Drawing&DocLang=English; Supplier 1: Digi-Key
footprint 0603-RES
pins: 1, 2

## RESISTOR1206
designator R?, comment <b>Resistor</b> / Basic schematic elements and footprints for 0603, 1206, and PTH resistors.
footprint 1206
pins: 1, 2

## RESISTOR2010
designator R?, comment <b>Resistor</b> / Basic schematic elements and footprints for 0603, 1206, and PTH resistors.
footprint R2010
pins: 1, 2

## RESISTOR2512
designator R?, comment <b>Resistor</b> / Basic schematic elements and footprints for 0603, 1206, and PTH resistors.
footprint R2512
pins: 1, 2

## RESISTORAXIAL-0.3
designator R?, comment <b>Resistor</b> / Basic schematic elements and footprints for 0603, 1206, and PTH resistors.
footprint AXIAL-0.3
pins: P$1 1, P$2 2

## RESISTORKIT
designator R?, comment <b>Resistor</b> / Basic schematic elements and footprints for 0603, 1206, and PTH resistors.
footprint AXIAL-0.3-KIT
pins: P$1 1, P$2 2

## RESISTORPTH-1/2W
designator R?, comment <b>Resistor</b> / Basic schematic elements and footprints for 0603, 1206, and PTH resistors.
footprint AXIAL-0.5
pins: P$1 1, P$2 2

## RESISTORPTH-1/4W
designator R?, comment <b>Resistor</b> / Basic schematic elements and footprints for 0603, 1206, and PTH resistors.
footprint AXIAL-0.4
pins: P$1 1, P$2 2

## RESISTORPTH-1/6W
designator R?, comment <b>Resistor</b> / Basic schematic elements and footprints for 0603, 1206, and PTH resistors.
footprint 1/6W-RES
pins: 1, 2

## RESISTORPTH-1W
designator R?, comment <b>Resistor</b> / Basic schematic elements and footprints for 0603, 1206, and PTH resistors.
footprint AXIAL-0.6
pins: P$1 1, P$2 2

## RESISTORPTH-2W
designator R?, comment <b>Resistor</b> / Basic schematic elements and footprints for 0603, 1206, and PTH resistors.
footprint AXIAL-0.8
pins: P$1 1, P$2 2

## S-8261
designator *
footprint SOT236-A-PKG
pins: 1 D0 "A0", 2 VM "A0", 3 C0 "A0", 4 DP "A0", 5 VDD "A0", 6 VSS "A0"

## SI4178DY
designator U?
footprint SO8
pins: 1 2 3 S, 4 G, D@1 D@2 D@3 D@4 D

## SPV1040
designator *  Manufacturer Part Number: SPV1040T  Supplier Part Number 1: 497-11288-1-ND
Manufacturer: STMicroelectronics; Function: Charge Management, Solar; Voltage - Supply: 0.3 V ~ 5.5 V; RoHS: RoHS Compliant; Category: Integrated Circuits (ICs); Packaging: Tube; Battery Chemistry: -; Operating Temperature: -40°C ~ 85°C; Mounting Type: Surface Mount; Package / Case: 8-TSSOP (0.173", 4.40mm Width); Supplier Device Package: 8-TSSOP; ComponentLink1URL: http://www.st.com/web/en/resource/technical/document/datasheet/CD00287506.pdf; ComponentLink1Description: http://www.st.com/web/en/resource/technical/document/datasheet/CD00287506.pdf; Supplier 1: Digi-Key
footprint TSOP65P640X120-8N (TSOP, 8-Leads, Body 3.00x4.40mm, Pitch 0.65mm, IPC Medium Density)
pins: 1 MPP-SET (in), 2 GND, 3 Lx (in), 4 Vout (out), 5 Vctrl (in), 6 Ictrl_minus (in), 7 Ictrl_plus (in), 8 Xshut (in)

## STMM-105-01-S-D-RA
designator *
footprint STMM-105-01-S-D-RA
pins: 1 "A0", 2 "A0", 3 "A0", 4 "A0", 5 "A0", 6 "A0", 7 "A0", 8 "A0", 9 "A0", 10 "A0"

## STMM-105-01-S-D-SA
designator *
footprint STMM-105-01-S-D-SM
pins: 1 "A0", 2 "A0", 3 "A0", 4 "A0", 5 "A0", 6 "A0", 7 "A0", 8 "A0", 9 "A0", 10 "A0"

## TASC_Cell
designator *
footprint TASC Solar Cell (Footprint not found)
pins: Neg - (power), Pos + (power)

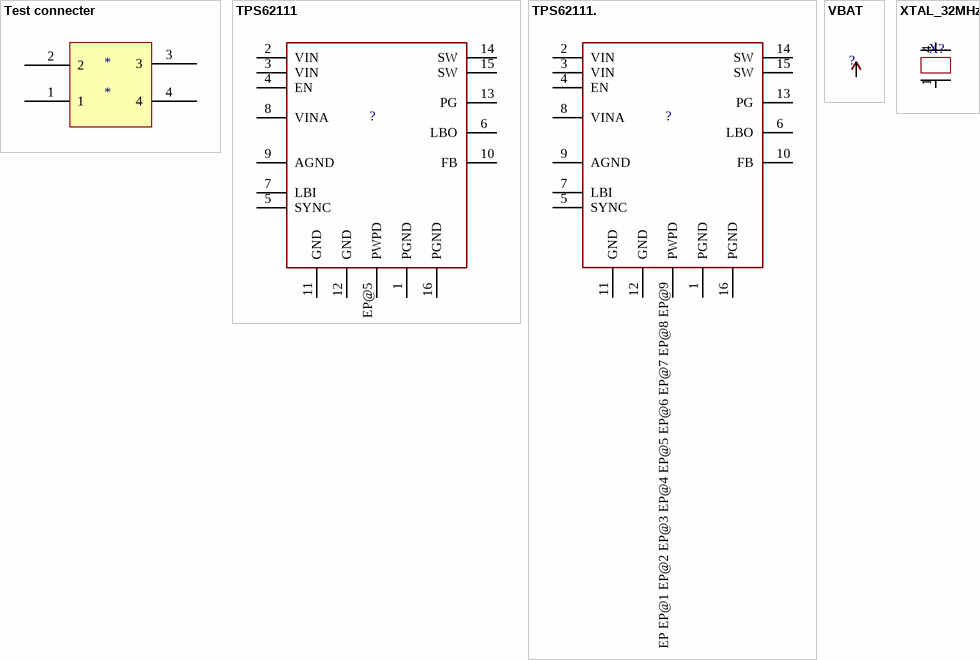
[diagram p4: symbols Test connecter to XTAL_32MHz]

## Test connecter
designator *
Supplier 1: Digi-Key; Supplier Part Number 1: SAM1006-02-ND
footprint Connecter
pins: 1, 2, 3, 4

## TPS62111
designator ?
footprint VQFN16_AP
pins: 1 PGND, 2 VIN, 3 VIN, 4 EN, 5 SYNC, 6 LBO, 7 LBI, 8 VINA, 9 AGND, 10 FB, 11 GND, 12 GND, 13 PG, 14 SW, 15 SW, 16 PGND, EP@5 PWPD

## TPS62111.
designator ?
footprint VQFN16
pins: 1 PGND, 2 VIN, 3 VIN, 4 EN, 5 SYNC, 6 LBO, 7 LBI, 8 VINA, 9 AGND, 10 FB, 11 GND, 12 GND, 13 PG, 14 SW, 15 SW, 16 PGND, EP EP@1 EP@2 EP@3 EP@4 EP@5 EP@6 EP@7 EP@8 EP@9 PWPD

## VBAT
designator ?
pins: VBAT (oe)

## XTAL_32MHz
designator X?  (value not drawn)
Supplier 1: Digi-Key; Supplier Part Number 1: SER2417CT-ND
footprint SOJ550P350X254-4M (SOJ, 4-Leads, Body 8.00x3.55mm, Pitch 5.50mm, IPC Low Density)
pins: 1 "A0", 4 "A0"